# Altium footprint library FMP Miscellaneous Device.PcbLib: 47 footprints (part 1 of 3)
Each footprint in its own frame and in the unit in brackets; x right, y up, seen from the top. Pads: shape width x height; smd on the part's side, far side on the other; paste and mask are expansions set on the pad; w line width, h text height; cw(c..) or ccw(c..) is an arc to the next point about the centre after c.
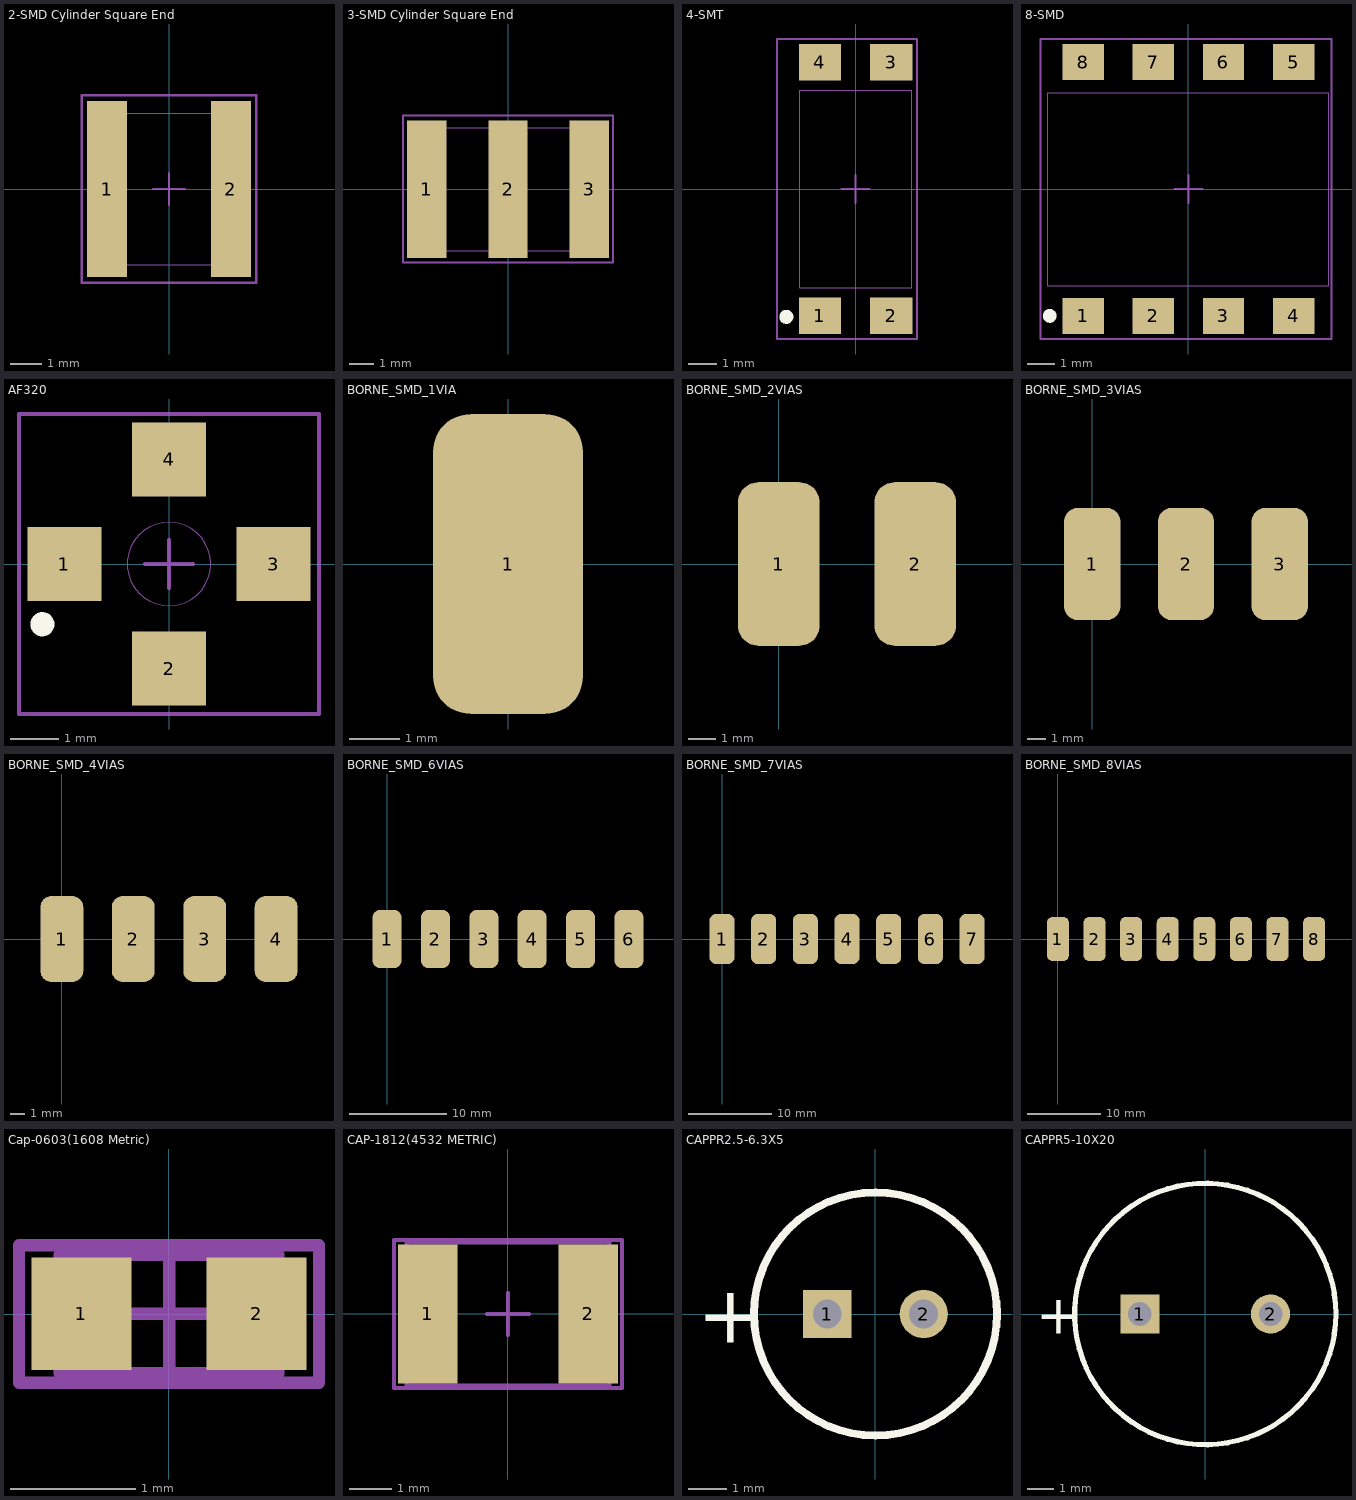
[diagram p0: the footprints below, top view; thin cyan lines are the x and y axes]

## 2-SMD Cylinder Square End [mil] "2-SMD Cylinder Square End"
height 195
pads (2):
  rect 50x220 smd: 1(-77.5,0) 2(77.5,0)
Mechanical 13:
  lines w1: -86.5,-95 86.5,-95 86.5,95 -86.5,95 -86.5,-95
  text ".Designator" at 0,0 h25
Mechanical 15:
  lines w3: -19.69,0 19.68,0 ; 0,-19.69 0,19.68 ; -109,-117 -109,117 109,117 109,-117 -109,-117
3D body: height 192.81, standoff 3.19, extent -97.01,-94.24 97.99,95

## 3-SMD Cylinder Square End [mil] "3-SMD Cylinder Square End"
pads (3):
  rect 63x220 smd: 1(-130,0) 2(0,0) 3(130,0)
Mechanical 13:
  lines w1: -149,-98.5 149,-98.5 149,98.5 -149,98.5 -149,-98.5
Mechanical 15:
  lines w3: -19.69,0 19.68,0 ; 0,-19.69 0,19.68 ; -168,-117 -168,118 168,118 168,-117 -168,-117
3D body: height 195.81, standoff 0.19, extent -149,-97.22 149,98.01

## 4-SMT [mm]
pads (4):
  rect 1.499x1.3 smd: 1(-1.27,-4.5) 2(1.27,-4.5) 3(1.27,4.5) 4(-1.27,4.5)
Top Overlay:
  circle w0.25: c-2.464,-4.547 r0.125
Mechanical 13:
  lines w0.025: -1.994,-3.505 1.994,-3.505 1.994,3.505 -1.994,3.505 -1.994,-3.505
Mechanical 15:
  lines w0.076: -0.5,0 0.5,0 ; 0,-0.5 0,0.5 ; -2.794,-5.334 -2.794,5.334 2.184,5.334 2.184,-5.334 -1.981,-5.334 -2.794,-5.334
3D body: height 3.99, standoff 0.08, extent -1.994,-3.505 1.994,3.505

## 8-SMD [mil] "SMD 8 PINS"
height 152
pads (8):
  rect 59x51.2 smd: 1(-150,-181.1) 2(-50,-181.1) 3(50,-181.1) 4(150,-181.1) 5(150,181.1) 6(50,181.1) 7(-50,181.1) 8(-150,181.1)
Top Overlay:
  circle w9.84: c-198,-181 r4.92
Mechanical 13:
  lines w1: -200.5,-138 200.5,-138 200.5,137.6 -200.5,137.6 -200.5,-138
Mechanical 15:
  lines w3: -19.69,0 19.68,0 ; 0,-19.69 0,19.68 ; -211,-214 -211,214 -184,214 204,214 204,-214 -211,-214
3D body: height 152, standoff 14, extent -200.5,-138 200.5,137.6

## AF320 [mil] "Attenuator"
height 57
pads (4):
  rect 60x60 smd: 1(-85,0) 2(0,-85) 3(85,0) 4(0,85)
Top Overlay:
  circle w9.84: c-103,-49 r4.92
Mechanical 13:
  circle w1: c0,0 r34
Mechanical 15:
  lines w3: -19.69,0 19.68,0 ; 0,-19.69 0,19.68 ; -122,-122 -122,122 -37,122 122,122 122,-122 -122,-122
3D body: height 57, standoff 0, extent -33.73,-33.93 34,33.94

## BORNE_SMD_1VIA [mm]
pads (1):
  rrect50% 3x6 smd: 1(0,0)

## BORNE_SMD_2VIAS [mm]
pads (2):
  rrect50% 3x6 smd: 1(0,0) 2(5,0)

## BORNE_SMD_3VIAS [mm]
pads (3):
  rrect50% 3x6 smd: 1(0,0) 2(5,0) 3(10,0)

## BORNE_SMD_4VIAS [mm]
pads (4):
  rrect50% 3x6 smd: 1(0,0) 2(5,0) 3(10,0) 4(15,0)

## BORNE_SMD_6VIAS [mm]
pads (6):
  rrect50% 3x6 smd: 1(0,0) 2(5,0) 3(10,0) 4(15,0) 5(20,0) 6(25,0)

## BORNE_SMD_7VIAS [mm]
pads (7):
  rrect50% 3x6 smd: 1(0,0) 2(5,0) 3(10,0) 4(15,0) 5(20,0) 6(25,0) 7(30,0)

## BORNE_SMD_8VIAS [mm]
pads (8):
  rrect50% 3x6 smd: 1(0,0) 2(5,0) 3(10,0) 4(15,0) 5(20,0) 6(25,0) 7(30,0) 8(35,0)

## Cap-0603(1608 Metric) [mm] "Chip Capacitor, Body 1.6x0.8mm, IPC High Density"
height 1.3
pads (2):
  rect 0.8x0.9 smd: 1(-0.7,0) 2(0.7,0)
Mechanical 13:
  lines w0.1: -0.875,-0.475 -0.875,0.475 0.875,0.475 0.875,-0.475 -0.875,-0.475
  text ".Designator" at 0,0 h0.51
Mechanical 15:
  lines w0.1: -0.475,0 0.475,0 ; 0,-0.475 0,0.475 ; -1.2,-0.55 -1.2,0.55 1.2,0.55 1.2,-0.55 -1.2,-0.55
3D body: height 1.3, standoff 0, extent -0.875,-0.475 0.875,0.475

## CAP-1812(4532 METRIC) [mm] "Chip Capacitor, Body 4.5x3.2mm, IPC High Density"
height 1.4
pads (2):
  rect 1.4x3.3 smd: 1(-1.9,0) 2(1.9,0)
Mechanical 13:
  lines w0.1: -2.4,-1.7 2.4,-1.7 2.4,1.7 -2.4,1.7 -2.4,-1.7
Mechanical 15:
  lines w0.1: -0.5,0 0.5,0 ; 0,-0.5 0,0.5 ; -2.7,-1.75 2.7,-1.75 2.7,1.75 -2.7,1.75 -2.7,-1.75
3D body: height 1.4, standoff 0, extent -2.4,-1.7 2.4,1.7

## CAPPR2.5-6.3X5 [mm] "Capacitor, Electrolytic, Radial; Body 6.3 x 5 mm (Dia.xH typ); Pin Spacing 2.5 mm (typ)"
height 6
pads (2):
  rect 1.25x1.25 hole 0.75: 1(-1.25,0)
  round 1.25 hole 0.75: 2(1.25,0)
Top Overlay:
  circle w0.2: c0,0 r3.15
  text "+" at -4.625,-0.75 h1.5

## CAPPR5-10X20 [mm] "Capacitor, Electrolytic, Radial; Body 10 x 5 mm (Dia.xH typ); Pin Spacing 5 mm (typ)"
height 19.99
pads (2):
  rect 1.5x1.5 hole 0.9: 1(-2.5,0)
  round 1.5 hole 0.9: 2(2.5,0)
Top Overlay:
  circle w0.2: c0,0 r5
  text "+" at -6.475,-0.75 h1.5
Mechanical 13:
  circle w0.025: c0,0 r5.004
3D body: height 20, standoff 0, extent -4.939,-4.968 4.978,4.969